# EAGLE library part MOLEX_52808_0671_NON_ZIF (library Steckverbinder - THT & SMD)
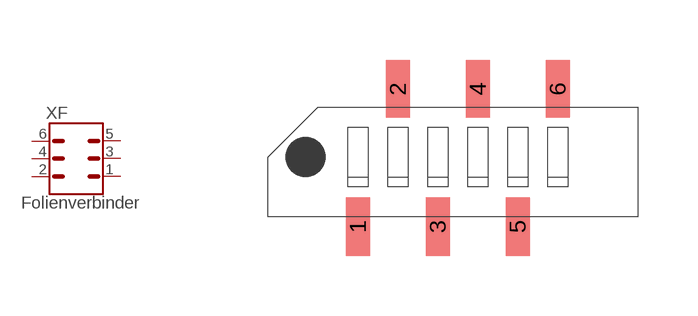
[diagram p3: symbol with the pads of MOLEX_52808-0671_NON_ZIF; footprint MOLEX_52808-0671_NON_ZIF]

Designator prefix XF

## MOLEX_52808_0671_NON_ZIF  [MOLEX_52808-0671_NON_ZIF]
1  1  pas
2  2  pas
3  3  pas
4  4  pas
5  5  pas
6  6  pas

## Footprint MOLEX_52808-0671_NON_ZIF (pad centres in mm)
smd 0.6 x 1.45: 1 -2.5,-1.75; 2 -1.5,1.7; 3 -0.5,-1.75; 4 0.5,1.7; 5 1.5,-1.75; 6 2.5,1.7